# Altium footprint library adafruit.PCBLIB: 643 footprints (part 35 of 41)
Each footprint in its own frame and in the unit in brackets; x right, y up, seen from the top. Pads: shape width x height; smd on the part's side, far side on the other; paste and mask are expansions set on the pad; w line width, h text height; cw(c..) or ccw(c..) is an arc to the next point about the centre after c.
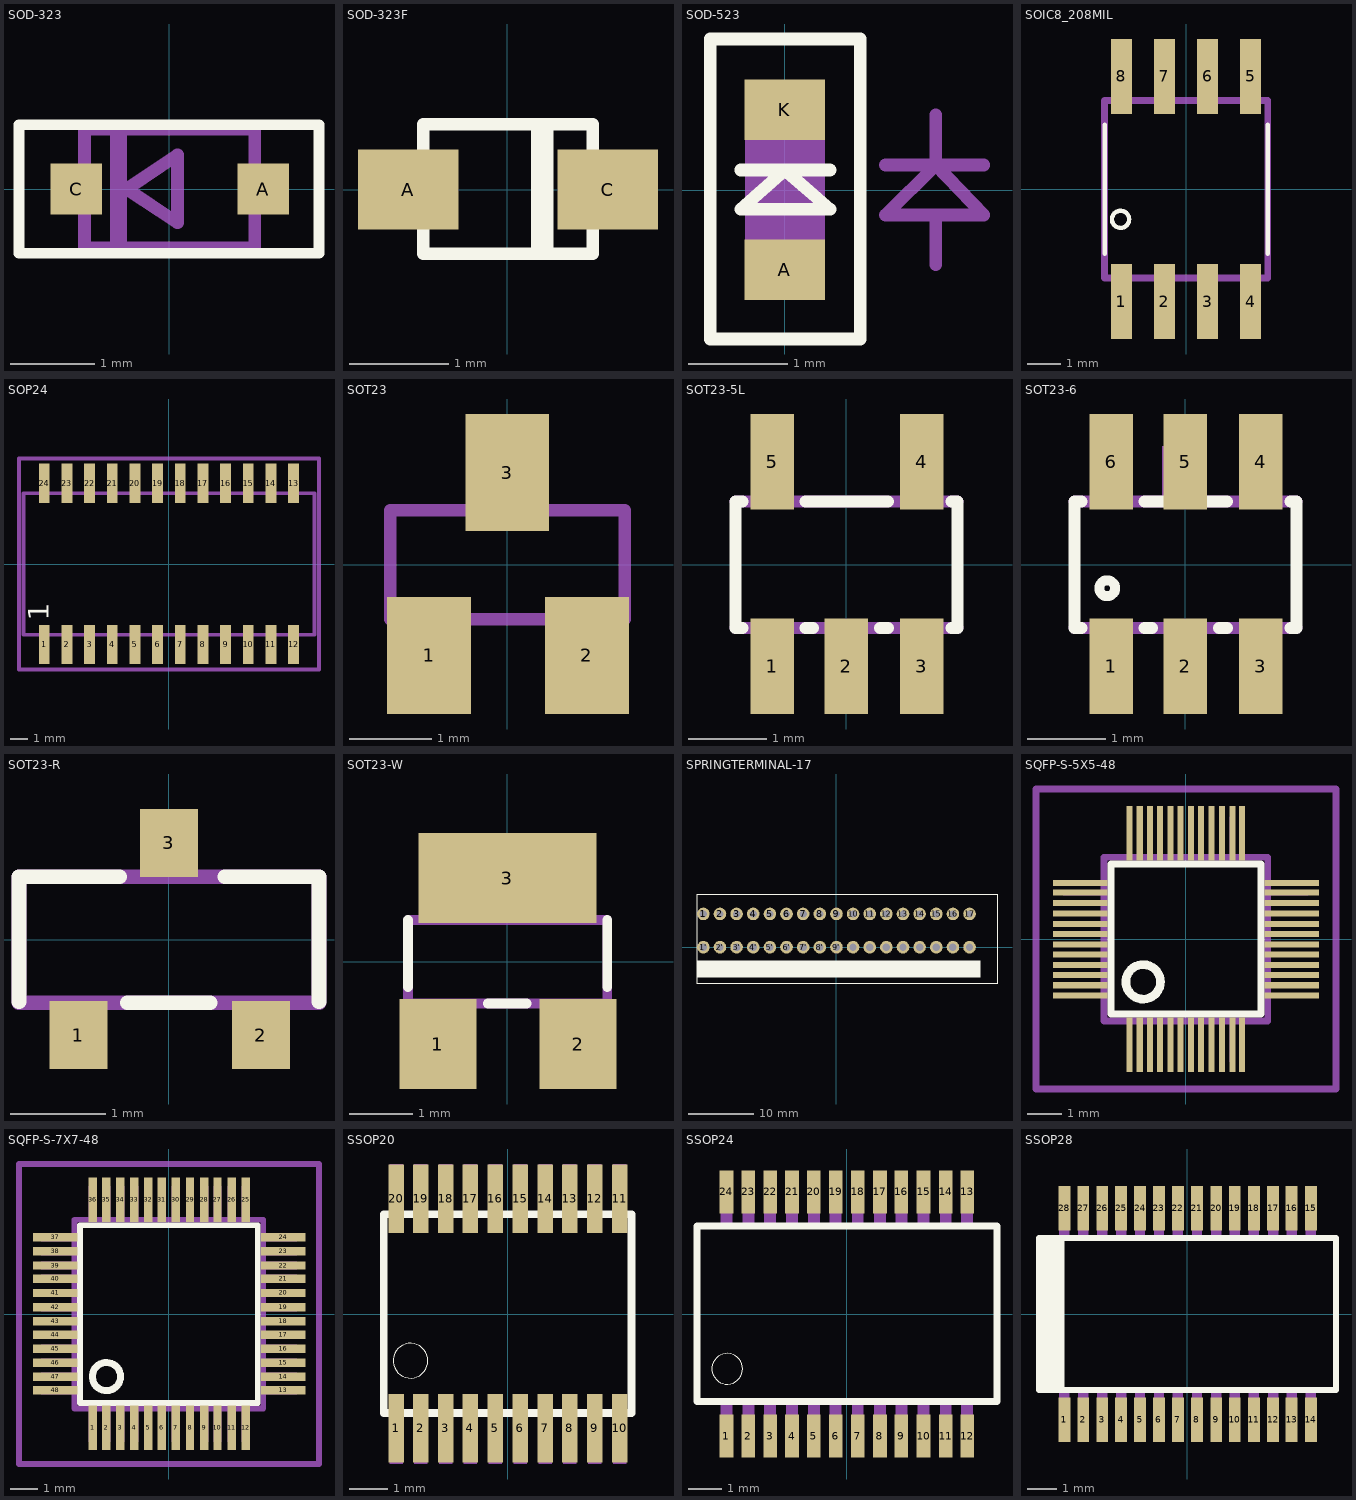
[diagram p34: the footprints below, top view; thin cyan lines are the x and y axes]

## SOD-323 [mil]
pads (2):
  rect 24x24 smd: A(44,0) C(-43.31,0)
Top Overlay:
  lines w5: -70,-30 70,-30 70,30 -70,30 -70,-30
Courtyard Bottom:
  rectangle: -27.56,-27.56 -19.68,28
  lines w6: -39.37,-27.56 40,-27.56 40,28 -39.37,28 -39.37,-27.56 ; -19.68,0 4,16 4,-15.75 -19.68,0
  text "41" at 22,12 h37.2

## SOD-323F [mil]
pads (2):
  rect 40x32 smd: A(-39.37,0) C(40,0)
Top Overlay:
  lines w5: 12,24 12,-23.62 16,-23.62 16,24 ; -33.46,-25.59 34,-25.59 34,26 -33.46,26 -33.46,-25.59
Courtyard Bottom:
  lines w5: -35.43,-7.87 -47.24,-7.87 -47.24,8 -35.43,8 ; 36,-7.87 48,-7.87 48,8 36,8

## SOD-523 [mil]
pads (2):
  rect 32x24 smd: A(0,-31.5) K(0,32)
Top Overlay:
  lines w5: -17.5,8 18,8 ; -29.53,-59.06 30,-59.06 30,60 -29.53,60 -29.53,-59.06 ; -17.5,-7.5 18,-7.5 0,8 -17.5,-7.5
Courtyard Bottom:
  rectangle: -15.75,-23.62 16,24
  rectangle: -5.91,-31.5 6,-23.62
  rectangle: -5.91,24 6,32
  lines w5: 40,10 60,10 ; 60,-29.53 60,-9.84 ; 60,30 60,10 ; 79,10 60,10 ; 60,-9.84 40,-9.84 60,10 ; 60,-9.84 79,-9.84 60,10

## SOIC8_208MIL [mil]
pads (8):
  rect 24x87 smd: 1(-75,-130.51) 2(-25,-130.51) 3(25,-130.51) 4(75,-130.51) 5(75,131) 6(25,131) 7(-25,131) 8(-75,131)
Top Overlay:
  circle w5: c-76,-35 r10
  lines w5: -94.49,-74.8 -94.49,75 ; 95,-74.8 95,75
Courtyard Bottom:
  rectangle: -84.65,-150.2 -65.35,-106.89
  rectangle: -34.65,-150.2 -15.35,-106.89
  rectangle: 16,-150.2 35,-106.89
  rectangle: 66,-150.2 85,-106.89
  rectangle: 66,107 85,151
  rectangle: 16,107 35,151
  rectangle: -34.65,107 -15.35,151
  rectangle: -84.65,107 -65.35,151
  lines w8: -94.49,-102.95 95,-102.95 95,103 -94.49,103 -94.49,-102.95

## SOP24 [mil]
pads (24):
  rect 24x87 smd: 1(-275,-177.17) 2(-225,-177.17) 3(-175,-177.17) 4(-125,-177.17) 5(-75,-177.17) 6(-25,-177.17) 7(25,-177.17) 8(75,-177.17) 9(125,-177.17) 10(175,-177.17) 11(225,-177.17) 12(275,-177.17) 13(275,178) 14(225,178) 15(175,178) 16(125,178) 17(75,178) 18(25,178) 19(-25,178) 20(-75,178) 21(-125,178) 22(-175,178) 23(-225,178) 24(-275,178)
Top Overlay:
  text "1" at -250,-125 h77.5
Courtyard Bottom:
  rectangle: -284.84,-212.2 -265.16,-159.84
  rectangle: -234.84,-212.2 -215.16,-159.84
  rectangle: -184.84,-212.2 -165.16,-159.84
  rectangle: -134.84,-212.2 -115.16,-159.84
  rectangle: -84.84,-212.2 -65.16,-159.84
  rectangle: -34.84,-212.2 -15.16,-159.84
  rectangle: 16,-212.2 35,-159.84
  rectangle: 66,-212.2 85,-159.84
  rectangle: 116,-212.2 135,-159.84
  rectangle: 166,-212.2 185,-159.84
  rectangle: 216,-212.2 235,-159.84
  rectangle: 266,-212.2 285,-159.84
  rectangle: 266,160 285,213
  rectangle: 216,160 235,213
  rectangle: 166,160 185,213
  rectangle: 116,160 135,213
  rectangle: 66,160 85,213
  rectangle: 16,160 35,213
  rectangle: -34.84,160 -15.16,213
  rectangle: -84.84,160 -65.16,213
  rectangle: -134.84,160 -115.16,213
  rectangle: -184.84,160 -165.16,213
  rectangle: -234.84,160 -215.16,213
  rectangle: -284.84,160 -265.16,213
  lines w8: -320.67,-155.91 321,-155.91 321,156 -320.67,156 -320.67,-155.91
Mech37:
  lines w8: -330.71,-232.28 -330.71,233 331,233 331,-232.28 -330.71,-232.28

## SOT23 [mil]
pads (3):
  rect 40x56 smd: 1(-37.4,-43.31) 2(38,-43.31) 3(0,44)
Courtyard Bottom:
  rectangle: -9,28 9,51
  rectangle: 28,-51 46,-28
  rectangle: -46,-51 -28,-28
  lines w6: -56,-26 56,-26 56,26 -56,26 -56,-26

## SOT23-5L [mil]
pads (5):
  rect 22x48 smd: 1(-37.4,-51.18) 2(0,-51.18) 3(38,-51.18) 4(38,52) 5(-37.4,52)
Top Overlay:
  lines w6: -52.28,-31.89 -55.98,-31.89 -55.98,32 -52.28,32 ; -20.55,-31.89 -16.85,-31.89 ; -20.55,32 21,32 ; 17,-31.89 21,-31.89 ; 53,-31.89 56,-31.89 56,32 53,32
Courtyard Bottom:
  rectangle: -47.24,-59.06 -27.56,-33.46
  rectangle: -9.84,-59.06 10,-33.46
  rectangle: 28,-59.06 48,-33.46
  rectangle: 28,34 48,60
  rectangle: -47.24,34 -27.56,60
  lines w6: -55.98,-31.89 56,-31.89 ; -55.98,32 56,32

## SOT23-6 [mil]
pads (6):
  rect 22x48 smd: 1(-37.4,-51.18) 2(0,-51.18) 3(38,-51.18) 4(38,52) 5(0,52) 6(-37.4,52)
Top Overlay:
  circle w5: c-39.37,-11.81 r4
  lines w6: -52.28,-31.89 -55.98,-31.89 -55.98,32 -52.28,32 ; -20.55,-31.89 -16.85,-31.89 ; -20.55,32 21,32 ; 17,-31.89 21,-31.89 ; 53,-31.89 56,-31.89 56,32 53,32
Courtyard Bottom:
  rectangle: -47.24,-59.06 -27.56,-33.46
  rectangle: -9.84,-59.06 10,-33.46
  rectangle: 28,-59.06 48,-33.46
  rectangle: 28,34 48,60
  rectangle: -47.24,34 -27.56,60
  rectangle: -11.81,34 8,60
  lines w6: -55.98,-31.89 56,-31.89 ; -55.98,32 56,32

## SOT23-R [mil]
pads (3):
  rect 24x28 smd: 1(-37.4,-39.37) 2(38,-39.37) 3(0,40)
Top Overlay:
  lines w6: -61.91,-25.68 -61.91,26 -20.22,26 ; -17.18,-26 17,-26 ; 23,26 62,26 62,-25.68
Courtyard Bottom:
  rectangle: -9,28 9,51
  rectangle: 28,-51 46,-28
  rectangle: -46,-51 -28,-28
  lines w6: -61.91,-26 62,-26 62,26 -61.91,26 -61.91,-26

## SOT23-W [mil]
pads (3):
  rect 48x56 smd: 1(-43.31,-51.18) 2(44,-51.18)
  rect 111x56 smd: 3(0,52)
Top Overlay:
  lines w6: -61.91,-15.69 -61.91,26 ; -12.18,-26 12,-26 ; 62,-15.69 62,26
Courtyard Bottom:
  rectangle: -9,28 9,51
  rectangle: 28,-51 46,-28
  rectangle: -46,-51 -28,-28
  lines w6: -61.91,-26 62,-26 62,26 -61.91,26 -61.91,-26

## SPRINGTERMINAL-17 [mil]
pads (34):
  round 76 hole 44: 1(-800,200) 1'(-800,0) 2(-700,200) 2'(-700,0) 3(-600,200) 3'(-600,0) 4(-500,200) 4'(-500,0) 5(-400,200) 5'(-400,0) 6(-300,200) 6'(-300,0) 7(-200,200) 7'(-200,0) 8(-100,200) 8'(-100,0) 9(0,200) 9'(0,0) 10(100,200) 10'(100,0) 11(200,200) 11'(200,0) 12(300,200) 12'(300,0) 13(400,200) 13'(400,0) 14(500,200) 14'(500,0) 15(600,200) 15'(600,0) 16(700,200) 16'(700,0) 17(800,200) 17'(800,0)
Top Overlay:
  rectangle: -835.43,-181.1 865,-81.1
  lines w5: -835.43,-220.47 965,-220.47 965,319 -835.43,319 -835.43,-220.47

## SQFP-S-5X5-48 [mil]
pads (48):
  rect 7x63 smd: 1(-64.96,-122.05) 2(-53.15,-122.05) 3(-41.34,-122.05) 4(-29.53,-122.05) 5(-17.72,-122.05) 6(-5.91,-122.05) 7(6,-122.05) 8(18,-122.05) 9(30,-122.05) 10(42,-122.05) 11(54,-122.05) 12(65,-122.05) 25(65,123) 26(54,123) 27(42,123) 28(30,123) 29(18,123) 30(6,123) 31(-5.91,123) 32(-17.72,123) 33(-29.53,123) 34(-41.34,123) 35(-53.15,123) 36(-64.96,123)
  rect 63x7 smd: 13(123,-64.96) 14(123,-53.15) 15(123,-41.34) 16(123,-29.53) 17(123,-17.72) 18(123,-5.91) 19(123,6) 20(123,18) 21(123,30) 22(123,42) 23(123,54) 24(123,65) 37(-122.05,65) 38(-122.05,54) 39(-122.05,42) 40(-122.05,30) 41(-122.05,18) 42(-122.05,6) 43(-122.05,-5.91) 44(-122.05,-17.72) 45(-122.05,-29.53) 46(-122.05,-41.34) 47(-122.05,-53.15) 48(-122.05,-64.96)
Top Overlay:
  circle w10: c-49.21,-49.21 r20
  lines w8: -86.61,-86.61 87,-86.61 87,87 -86.61,87 -86.61,-86.61
Courtyard Bottom:
  rectangle: -67.72,-141.73 -62.2,-96.46
  rectangle: -55.91,-141.73 -50.39,-96.46
  rectangle: -44.09,-141.73 -38.58,-96.46
  rectangle: -32.28,-141.73 -26.77,-96.46
  rectangle: -20.47,-141.73 -14.96,-96.46
  rectangle: -8.66,-141.73 -3.15,-96.46
  rectangle: 4,-141.73 9,-96.46
  rectangle: 15,-141.73 21,-96.46
  rectangle: 27,-141.73 33,-96.46
  rectangle: 39,-141.73 45,-96.46
  rectangle: 51,-141.73 56,-96.46
  rectangle: 63,-141.73 68,-96.46
  rectangle: 97,-67.72 142,-62.2
  rectangle: 97,-55.91 142,-50.39
  rectangle: 97,-44.09 142,-38.58
  rectangle: 97,-32.28 142,-26.77
  rectangle: 97,-20.47 142,-14.96
  rectangle: 97,-8.66 142,-3.15
  rectangle: 97,4 142,9
  rectangle: 97,15 142,21
  rectangle: 97,27 142,33
  rectangle: 97,39 142,45
  rectangle: 97,51 142,56
  rectangle: 97,63 142,68
  rectangle: 63,97 68,142
  rectangle: 51,97 56,142
  rectangle: 39,97 45,142
  rectangle: 27,97 33,142
  rectangle: 15,97 21,142
  rectangle: 4,97 9,142
  rectangle: -8.66,97 -3.15,142
  rectangle: -20.47,97 -14.96,142
  rectangle: -32.28,97 -26.77,142
  rectangle: -44.09,97 -38.58,142
  rectangle: -55.91,97 -50.39,142
  rectangle: -67.72,97 -62.2,142
  rectangle: -141.73,63 -96.46,68
  rectangle: -141.73,51 -96.46,56
  rectangle: -141.73,39 -96.46,45
  rectangle: -141.73,27 -96.46,33
  rectangle: -141.73,15 -96.46,21
  rectangle: -141.73,4 -96.46,9
  rectangle: -141.73,-8.66 -96.46,-3.15
  rectangle: -141.73,-20.47 -96.46,-14.96
  rectangle: -141.73,-32.28 -96.46,-26.77
  rectangle: -141.73,-44.09 -96.46,-38.58
  rectangle: -141.73,-55.91 -96.46,-50.39
  rectangle: -141.73,-67.72 -96.46,-62.2
  lines w8: -94.49,-94.49 95,-94.49 95,95 -94.49,95 -94.49,-94.49
Mech37:
  lines w8: -173.23,-173.23 -173.23,174 174,174 174,-173.23 -173.23,-173.23

## SQFP-S-7X7-48 [mil]
pads (48):
  rect 12x63 smd: 1(-108.27,-161.42) 2(-88.58,-161.42) 3(-68.9,-161.42) 4(-49.21,-161.42) 5(-29.53,-161.42) 6(-9.84,-161.42) 7(10,-161.42) 8(30,-161.42) 9(50,-161.42) 10(69,-161.42) 11(89,-161.42) 12(109,-161.42) 25(109,162) 26(89,162) 27(69,162) 28(50,162) 29(30,162) 30(10,162) 31(-9.84,162) 32(-29.53,162) 33(-49.21,162) 34(-68.9,162) 35(-88.58,162) 36(-108.27,162)
  rect 63x12 smd: 13(162,-108.27) 14(162,-88.58) 15(162,-68.9) 16(162,-49.21) 17(162,-29.53) 18(162,-9.84) 19(162,10) 20(162,30) 21(162,50) 22(162,69) 23(162,89) 24(162,109) 37(-161.42,109) 38(-161.42,89) 39(-161.42,69) 40(-161.42,50) 41(-161.42,30) 42(-161.42,10) 43(-161.42,-9.84) 44(-161.42,-29.53) 45(-161.42,-49.21) 46(-161.42,-68.9) 47(-161.42,-88.58) 48(-161.42,-108.27)
Top Overlay:
  circle w10: c-88.58,-88.58 r20
  lines w8: -125.98,-125.98 126,-125.98 126,126 -125.98,126 -125.98,-125.98
Courtyard Bottom:
  rectangle: -114.17,-181.1 -102.36,-135.83
  rectangle: -94.49,-181.1 -82.68,-135.83
  rectangle: -74.8,-181.1 -62.99,-135.83
  rectangle: -55.12,-181.1 -43.31,-135.83
  rectangle: -35.43,-181.1 -23.62,-135.83
  rectangle: -15.75,-181.1 -3.94,-135.83
  rectangle: 4,-181.1 16,-135.83
  rectangle: 24,-181.1 36,-135.83
  rectangle: 44,-181.1 56,-135.83
  rectangle: 63,-181.1 75,-135.83
  rectangle: 83,-181.1 95,-135.83
  rectangle: 103,-181.1 115,-135.83
  rectangle: 136,-114.17 182,-102.36
  rectangle: 136,-94.49 182,-82.68
  rectangle: 136,-74.8 182,-62.99
  rectangle: 136,-55.12 182,-43.31
  rectangle: 136,-35.43 182,-23.62
  rectangle: 136,-15.75 182,-3.94
  rectangle: 136,4 182,16
  rectangle: 136,24 182,36
  rectangle: 136,44 182,56
  rectangle: 136,63 182,75
  rectangle: 136,83 182,95
  rectangle: 136,103 182,115
  rectangle: 103,136 115,182
  rectangle: 83,136 95,182
  rectangle: 63,136 75,182
  rectangle: 44,136 56,182
  rectangle: 24,136 36,182
  rectangle: 4,136 16,182
  rectangle: -15.75,136 -3.94,182
  rectangle: -35.43,136 -23.62,182
  rectangle: -55.12,136 -43.31,182
  rectangle: -74.8,136 -62.99,182
  rectangle: -94.49,136 -82.68,182
  rectangle: -114.17,136 -102.36,182
  rectangle: -181.1,103 -135.83,115
  rectangle: -181.1,83 -135.83,95
  rectangle: -181.1,63 -135.83,75
  rectangle: -181.1,44 -135.83,56
  rectangle: -181.1,24 -135.83,36
  rectangle: -181.1,4 -135.83,16
  rectangle: -181.1,-15.75 -135.83,-3.94
  rectangle: -181.1,-35.43 -135.83,-23.62
  rectangle: -181.1,-55.12 -135.83,-43.31
  rectangle: -181.1,-74.8 -135.83,-62.99
  rectangle: -181.1,-94.49 -135.83,-82.68
  rectangle: -181.1,-114.17 -135.83,-102.36
  lines w8: -133.86,-133.86 134,-133.86 134,134 -133.86,134 -133.86,-133.86
Mech37:
  lines w8: -212.6,-212.6 -212.6,213 213,213 213,-212.6 -212.6,-212.6

## SSOP20 [mil]
pads (20):
  rect 16x71 smd: 1(-115.16,-118.11) 2(-89.57,-118.11) 3(-63.98,-118.11) 4(-38.39,-118.11) 5(-12.8,-118.11) 6(13,-118.11) 7(39,-118.11) 8(64,-118.11) 9(90,-118.11) 10(116,-118.11) 11(116,119) 12(90,119) 13(64,119) 14(39,119) 15(13,119) 16(-12.8,119) 17(-38.39,119) 18(-63.98,119) 19(-89.57,119) 20(-115.16,119)
Top Overlay:
  circle w0: c-100.39,-48.23 r18
  lines w8: -127.95,-102.36 128,-102.36 128,103 -127.95,103 -127.95,-102.36
Courtyard Bottom:
  rectangle: -122.16,-155 -108.16,-104
  rectangle: -96.57,-155 -82.57,-104
  rectangle: -70.98,-155 -56.98,-104
  rectangle: -45.39,-155 -31.39,-104
  rectangle: -19.8,-155 -5.8,-104
  rectangle: 6,-155 20,-104
  rectangle: 32,-155 46,-104
  rectangle: 57,-155 71,-104
  rectangle: 83,-155 97,-104
  rectangle: 109,-155 123,-104
  rectangle: 109,104 123,155
  rectangle: 83,104 97,155
  rectangle: 57,104 71,155
  rectangle: 32,104 46,155
  rectangle: 6,104 20,155
  rectangle: -19.8,104 -5.8,155
  rectangle: -45.39,104 -31.39,155
  rectangle: -70.98,104 -56.98,155
  rectangle: -96.57,104 -82.57,155
  rectangle: -122.16,104 -108.16,155

## SSOP24 [mil]
pads (24):
  rect 16x50 smd: 1(-140.75,-142.72) 2(-115.16,-142.72) 3(-89.57,-142.72) 4(-63.98,-142.72) 5(-38.39,-142.72) 6(-12.8,-142.72) 7(13,-142.72) 8(39,-142.72) 9(64,-142.72) 10(90,-142.72) 11(116,-142.72) 12(141,-142.72) 13(141,143) 14(116,143) 15(90,143) 16(64,143) 17(39,143) 18(13,143) 19(-12.8,143) 20(-38.39,143) 21(-63.98,143) 22(-89.57,143) 23(-115.16,143) 24(-140.75,143)
Top Overlay:
  circle w0: c-139.76,-63.98 r18
  lines w8: -175.2,-102.36 176,-102.36 176,103 -175.2,103 -175.2,-102.36
Courtyard Bottom:
  rectangle: -147.75,-155 -133.75,-104
  rectangle: -122.16,-155 -108.16,-104
  rectangle: -96.57,-155 -82.57,-104
  rectangle: -70.98,-155 -56.98,-104
  rectangle: -45.39,-155 -31.39,-104
  rectangle: -19.8,-155 -5.8,-104
  rectangle: 6,-155 20,-104
  rectangle: 32,-155 46,-104
  rectangle: 57,-155 71,-104
  rectangle: 83,-155 97,-104
  rectangle: 109,-155 123,-104
  rectangle: 134,-155 148,-104
  rectangle: 134,104 148,155
  rectangle: 109,104 123,155
  rectangle: 83,104 97,155
  rectangle: 57,104 71,155
  rectangle: 32,104 46,155
  rectangle: 6,104 20,155
  rectangle: -19.8,104 -5.8,155
  rectangle: -45.39,104 -31.39,155
  rectangle: -70.98,104 -56.98,155
  rectangle: -96.57,104 -82.57,155
  rectangle: -122.16,104 -108.16,155
  rectangle: -147.75,104 -133.75,155

## SSOP28 [mil]
pads (28):
  rect 16x60 smd: 1(-166.34,-142.72) 2(-140.75,-142.72) 3(-115.16,-142.72) 4(-89.57,-142.72) 5(-63.98,-142.72) 6(-38.39,-142.72) 7(-12.8,-142.72) 8(13,-142.72) 9(39,-142.72) 10(64,-142.72) 11(90,-142.72) 12(116,-142.72) 13(141,-142.72) 14(167,-142.72) 15(167,143) 16(141,143) 17(116,143) 18(90,143) 19(64,143) 20(39,143) 21(13,143) 22(-12.8,143) 23(-38.39,143) 24(-63.98,143) 25(-89.57,143) 26(-115.16,143) 27(-140.75,143) 28(-166.34,143)
Top Overlay:
  rectangle: -204.72,-102.36 -166.34,103
  lines w8: -200.79,-102.36 201,-102.36 201,103 -200.79,103
Courtyard Bottom:
  rectangle: -173.34,-155 -159.34,-104
  rectangle: -147.75,-155 -133.75,-104
  rectangle: -122.16,-155 -108.16,-104
  rectangle: -96.57,-155 -82.57,-104
  rectangle: -70.98,-155 -56.98,-104
  rectangle: -45.39,-155 -31.39,-104
  rectangle: -19.8,-155 -5.8,-104
  rectangle: 6,-155 20,-104
  rectangle: 32,-155 46,-104
  rectangle: 57,-155 71,-104
  rectangle: 83,-155 97,-104
  rectangle: 109,-155 123,-104
  rectangle: 134,-155 148,-104
  rectangle: 160,-155 174,-104
  rectangle: 160,104 174,155
  rectangle: 134,104 148,155
  rectangle: 109,104 123,155
  rectangle: 83,104 97,155
  rectangle: 57,104 71,155
  rectangle: 32,104 46,155
  rectangle: 6,104 20,155
  rectangle: -19.8,104 -5.8,155
  rectangle: -45.39,104 -31.39,155
  rectangle: -70.98,104 -56.98,155
  rectangle: -96.57,104 -82.57,155
  rectangle: -122.16,104 -108.16,155
  rectangle: -147.75,104 -133.75,155
  rectangle: -173.34,104 -159.34,155